# Altium integrated library SupportComponents.IntLib: 24 symbols
Pins are listed as number, name and electrical type; pins without a type are passive.

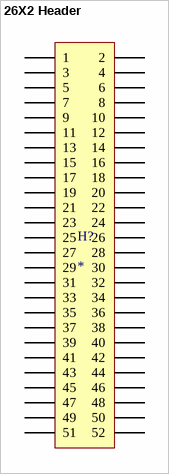
[diagram p0: symbol 26X2 Header]

## 26X2 Header
designator H?
footprint 26X2 Header
pins: 1, 2, 3, 4, 5, 6, 7, 8, 9, 10, 11, 12, 13, 14, 15, 16, 17, 18, 19, 20, 21, 22, 23, 24, 25, 26, 27, 28, 29, 30, 31, 32, 33, 34, 35, 36, 37, 38, 39, 40, 41, 42, 43, 44, 45, 46, 47, 48, 49, 50, 51, 52


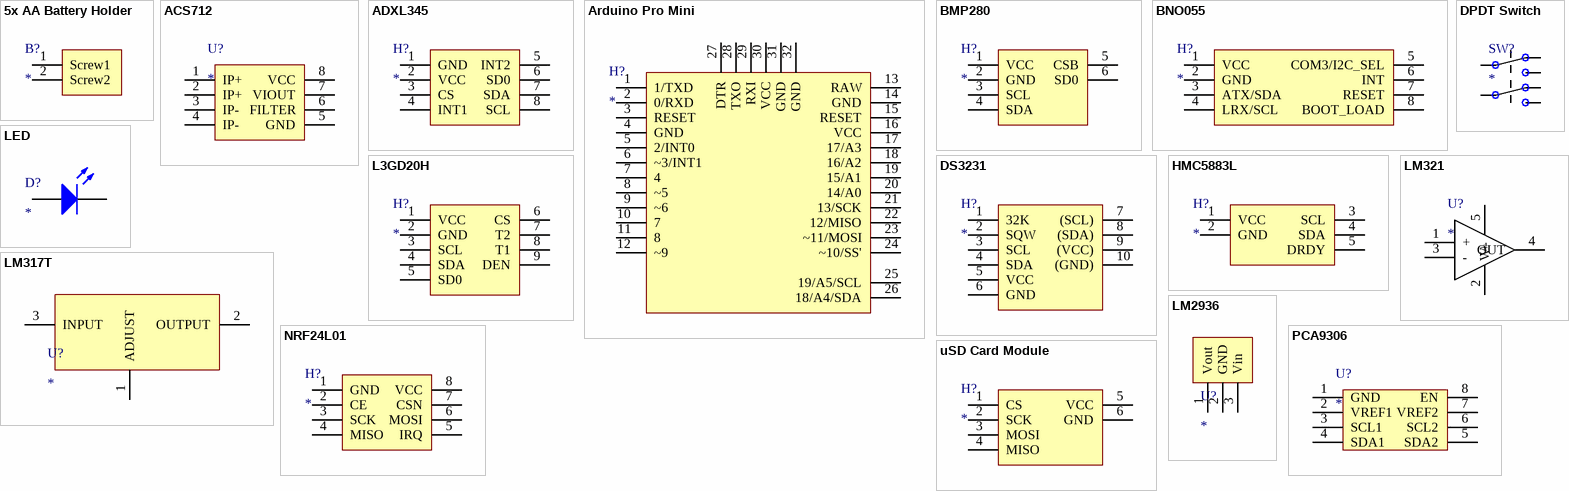
[diagram p1: symbols 5x AA Battery Holder to uSD Card Module]

## 5x AA Battery Holder
designator B?
5x AA Battery Holder
footprint 5x AA Battery Holder
pins: 1 Screw1, 2 Screw2

## ACS712
designator U?
Current Sensor
footprint ACS712
pins: 1 IP+, 2 IP+, 3 IP-, 4 IP-, 5 GND, 6 FILTER, 7 VIOUT, 8 VCC

## ADXL345
designator H?
Accelerometer
footprint ADXL345
pins: 1 GND, 2 VCC, 3 CS, 4 INT1, 5 INT2, 6 SD0, 7 SDA, 8 SCL

## Arduino Pro Mini
designator H?
Arduino Pro Mini
footprint Arduino Pro Mini
pins: 1 1/TXD, 2 0/RXD, 3 RESET, 4 GND, 5 2/INT0, 6 ~3/INT1, 7 4, 8 ~5, 9 ~6, 10 7, 11 8, 12 ~9, 13 RAW, 14 GND, 15 RESET, 16 VCC, 17 17/A3, 18 16/A2, 19 15/A1, 20 14/A0, 21 13/SCK, 22 12/MISO, 23 ~11/MOSI, 24 ~10/SS', 25 19/A5/SCL, 26 18/A4/SDA, 27 DTR, 28 TXO, 29 RXI, 30 VCC, 31 GND, 32 GND

## BMP280
designator H?
Temp + Pa Sensor
footprint BMP280
pins: 1 VCC, 2 GND, 3 SCL, 4 SDA, 5 CSB, 6 SD0

## BNO055
designator H?
Accel+Gyro+Mag
footprint BNO055
pins: 1 VCC, 2 GND, 3 ATX/SDA, 4 LRX/SCL, 5 COM3/I2C_SEL, 6 INT, 7 RESET, 8 BOOT_LOAD

## DPDT Switch
designator SW?
DPDT Switch
footprint DPDT SWITCH
pins: 1, 2, 3, 4, 5, 6

## DS3231
designator H?
RTC
footprint RTC
pins: 1 32K, 2 SQW, 3 SCL, 4 SDA, 5 VCC, 6 GND, 7 (SCL), 8 (SDA), 9 (VCC), 10 (GND)

## HMC5883L
designator H?
Magnetometer
footprint HMC5883L
pins: 1 VCC, 2 GND, 3 SCL, 4 SDA, 5 DRDY

## L3GD20H
designator H?
Gyroscope
footprint L3GD20H
pins: 1 VCC, 2 GND, 3 SCL, 4 SDA, 5 SD0, 6 CS, 7 T2, 8 T1, 9 DEN

## LED
designator D?
Small LED
footprint LED
pins: 1 A, 2 K

## LM317T
designator U?
Adjustable Voltage Regulator
footprint LM317T
pins: 1 ADJUST, 2 OUTPUT, 3 INPUT

## LM321
designator U?
Op-amp
footprint LM321
pins: 1 +, 2 V-, 3 -, 4 OUT, 5 V+

## LM2936
designator U?
3V3 Voltage Regulator
footprint LM2936
pins: 1 Vout, 2 GND, 3 Vin

## NRF24L01
designator H?
Radio Transceiver
footprint NRF24L01 (Radio Transceiver)
pins: 1 GND, 2 CE, 3 SCK, 4 MISO, 5 IRQ, 6 MOSI, 7 CSN, 8 VCC

## PCA9306
designator U?
Dual Bidirectional I2C Voltage Level Translator
footprint PCA9306 (DCT) (Dual Bidirectional I2C Voltage Shifter)
pins: 1 GND, 2 VREF1, 3 SCL1, 4 SDA1, 5 SDA2, 6 SCL2, 7 VREF2, 8 EN

## uSD Card Module
designator H?
uSD Card Module
footprint uSD Card Module
pins: 1 CS, 2 SCK, 3 MOSI, 4 MISO, 5 VCC, 6 GND


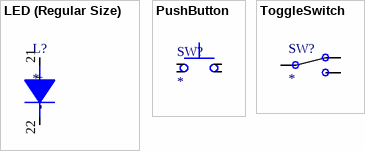
[diagram p2: symbols LED (Regular Size) to ToggleSwitch]

## LED (Regular Size)
designator L?
footprint LEDFOOTPRINT; pin to pad 21>1 22>0
pins: 21 +, 22 -

## PushButton
designator SW?
footprint PushButton; pin to pad 26>5 27>7 28>6 29>8
pins: 26, 27, 28, 29

## ToggleSwitch
designator SW?
footprint SWITCHFOOTPRINT; pin to pad 23>3 24>2 25>4
pins: 23, 24, 25


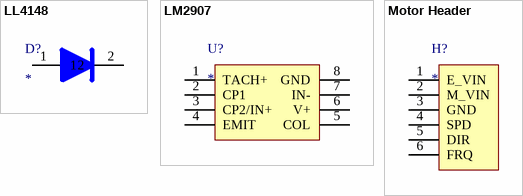
[diagram p3: symbols LL4148 to Motor Header]

## LL4148
designator D?
Signal Diode
footprint LL4148 (Signal Diode)
pins: 1, 2

## LM2907
designator U?
Freq to Voltage Converter
footprint LM2907 (Frequency to Voltage Converter)
pins: 1 TACH+, 2 CP1, 3 CP2/IN+, 4 EMIT, 5 COL, 6 V+, 7 IN-, 8 GND

## Motor Header
designator H?
footprint Motor Header
pins: 1 E_VIN, 2 M_VIN, 3 GND, 4 SPD, 5 DIR, 6 FRQ